# EAGLE library part AD8495ARMZ (library 3D_MIG_Controller)
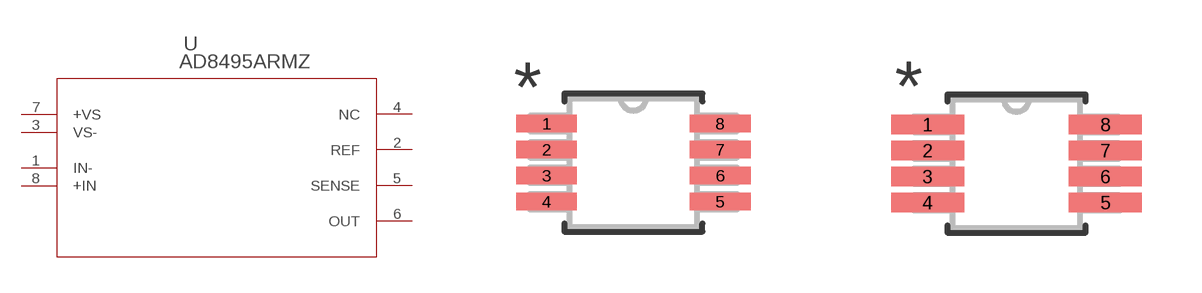
[diagram p37: symbol with the pads of RM_8_ADI; footprints RM_8_ADI, RM_8_ADI-M]

Designator prefix U

## AD8495ARMZ (BUILT_BY: EMA_UL_Team; MANUFACTURER_PART_NUMBER: AD8495ARMZ; SOURCELIBRARY: Analog_2015-12-15; VENDOR: Analog Devices Inc)  [RM_8_ADI]
1  IN-  in
2  REF  pas
3  VS-  pwr
4  NC  nc
5  SENSE  pas
6  OUT  out
7  +VS  pwr
8  +IN  in

## AD8495ARMZRM_8_ADI-M (BUILT_BY: EMA_UL_Team; MANUFACTURER_PART_NUMBER: AD8495ARMZ; SOURCELIBRARY: Analog_2015-12-15; VENDOR: Analog Devices Inc)  [RM_8_ADI-M]
Pads as for RM_8_ADI

## AD8495ARMZRM_8_ADI-L (BUILT_BY: EMA_UL_Team; MANUFACTURER_PART_NUMBER: AD8495ARMZ; SOURCELIBRARY: Analog_2015-12-15; VENDOR: Analog Devices Inc)  [RM_8_ADI-L]
Pads as for RM_8_ADI

## Footprint RM_8_ADI (pad centres in mm)
smd 1.524 x 0.432: 1 -2.172,0.975; 2 -2.172,0.325; 3 -2.172,-0.325; 4 -2.172,-0.975; 5 2.172,-0.975; 6 2.172,-0.325; 7 2.172,0.325; 8 2.172,0.975

## Footprint RM_8_ADI-M (pad centres in mm)
smd 1.829 x 0.483: 1 -2.223,0.975; 2 -2.223,0.325; 3 -2.223,-0.325; 4 -2.223,-0.975; 5 2.223,-0.975; 6 2.223,-0.325; 7 2.223,0.325; 8 2.223,0.975

## Footprint RM_8_ADI-L (pad centres in mm)
smd 1.219 x 0.381: 1 -2.121,0.975; 2 -2.121,0.325; 3 -2.121,-0.325; 4 -2.121,-0.975; 5 2.121,-0.975; 6 2.121,-0.325; 7 2.121,0.325; 8 2.121,0.975